# Altium schematic symbol library M_CON5x2_SHUNT.SchLib: 1 symbol
Pins are listed as number, name and electrical type; pins without a type are passive.

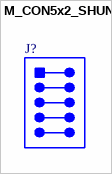
[diagram p0: symbol M_CON5x2_SHUNT]

## M_CON5x2_SHUNT
designator J?
*